# Altium footprint library PTPS2116DRLR.PcbLib: 1 footprints
Each footprint in its own frame and in the unit in brackets; x right, y up, seen from the top. Pads: shape width x height; smd on the part's side, far side on the other; paste and mask are expansions set on the pad; w line width, h text height; cw(c..) or ccw(c..) is an arc to the next point about the centre after c.
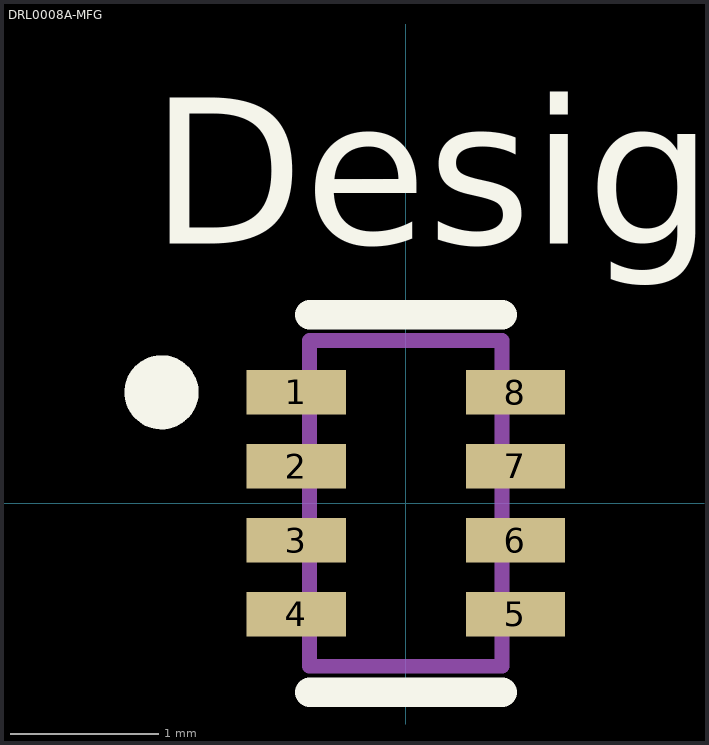
[diagram p0: the footprint, top view; thin cyan lines are the x and y axes]

## DRL0008A-MFG [mm]
pads (8):
  rect 0.67x0.3 smd paste+0 mask+0: 1(-0.74,0.75) 2(-0.74,0.25) 3(-0.74,-0.25) 4(-0.74,-0.75) 5(0.74,-0.75) 6(0.74,-0.25) 7(0.74,0.25) 8(0.74,0.75)
Top Overlay:
  circle w0.25: c-1.65,0.75 r0.125
  lines w0.2: -0.65,-1.275 0.65,-1.275 ; -0.65,1.275 0.65,1.275
  text "Designator9" at -1.727,1.753 h1.27
  text ".Designator" at -3.492,-0.635 h1.27
Mechanical 13:
  lines w0.1: -0.65,-1.1 -0.65,1.1 0.65,1.1 0.65,-1.1 -0.65,-1.1
  text ".Designator" at -3.492,-0.635 h1.27